# Altium schematic symbol library Pièces.SchLib: 6 symbols
Pins are listed as number, name and electrical type; pins without a type are passive.

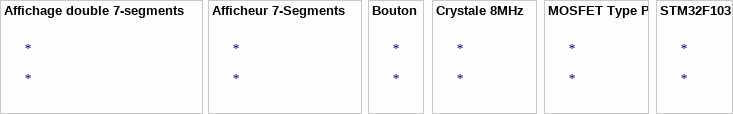
[diagram p0: symbols Affichage double 7-segments to STM32F103]

## Affichage double 7-segments
designator *

## Afficheur 7-Segments
designator *

## Bouton
designator *

## Crystale 8MHz
designator *

## MOSFET Type P
designator *

## STM32F103
designator *